# Altium footprint library Desafio_Hardware_Firmware_Nathania.PcbLib: 20 footprints (part 1 of 2)
Each footprint in its own frame and in the unit in brackets; x right, y up, seen from the top. Pads: shape width x height; smd on the part's side, far side on the other; paste and mask are expansions set on the pad; w line width, h text height; cw(c..) or ccw(c..) is an arc to the next point about the centre after c.
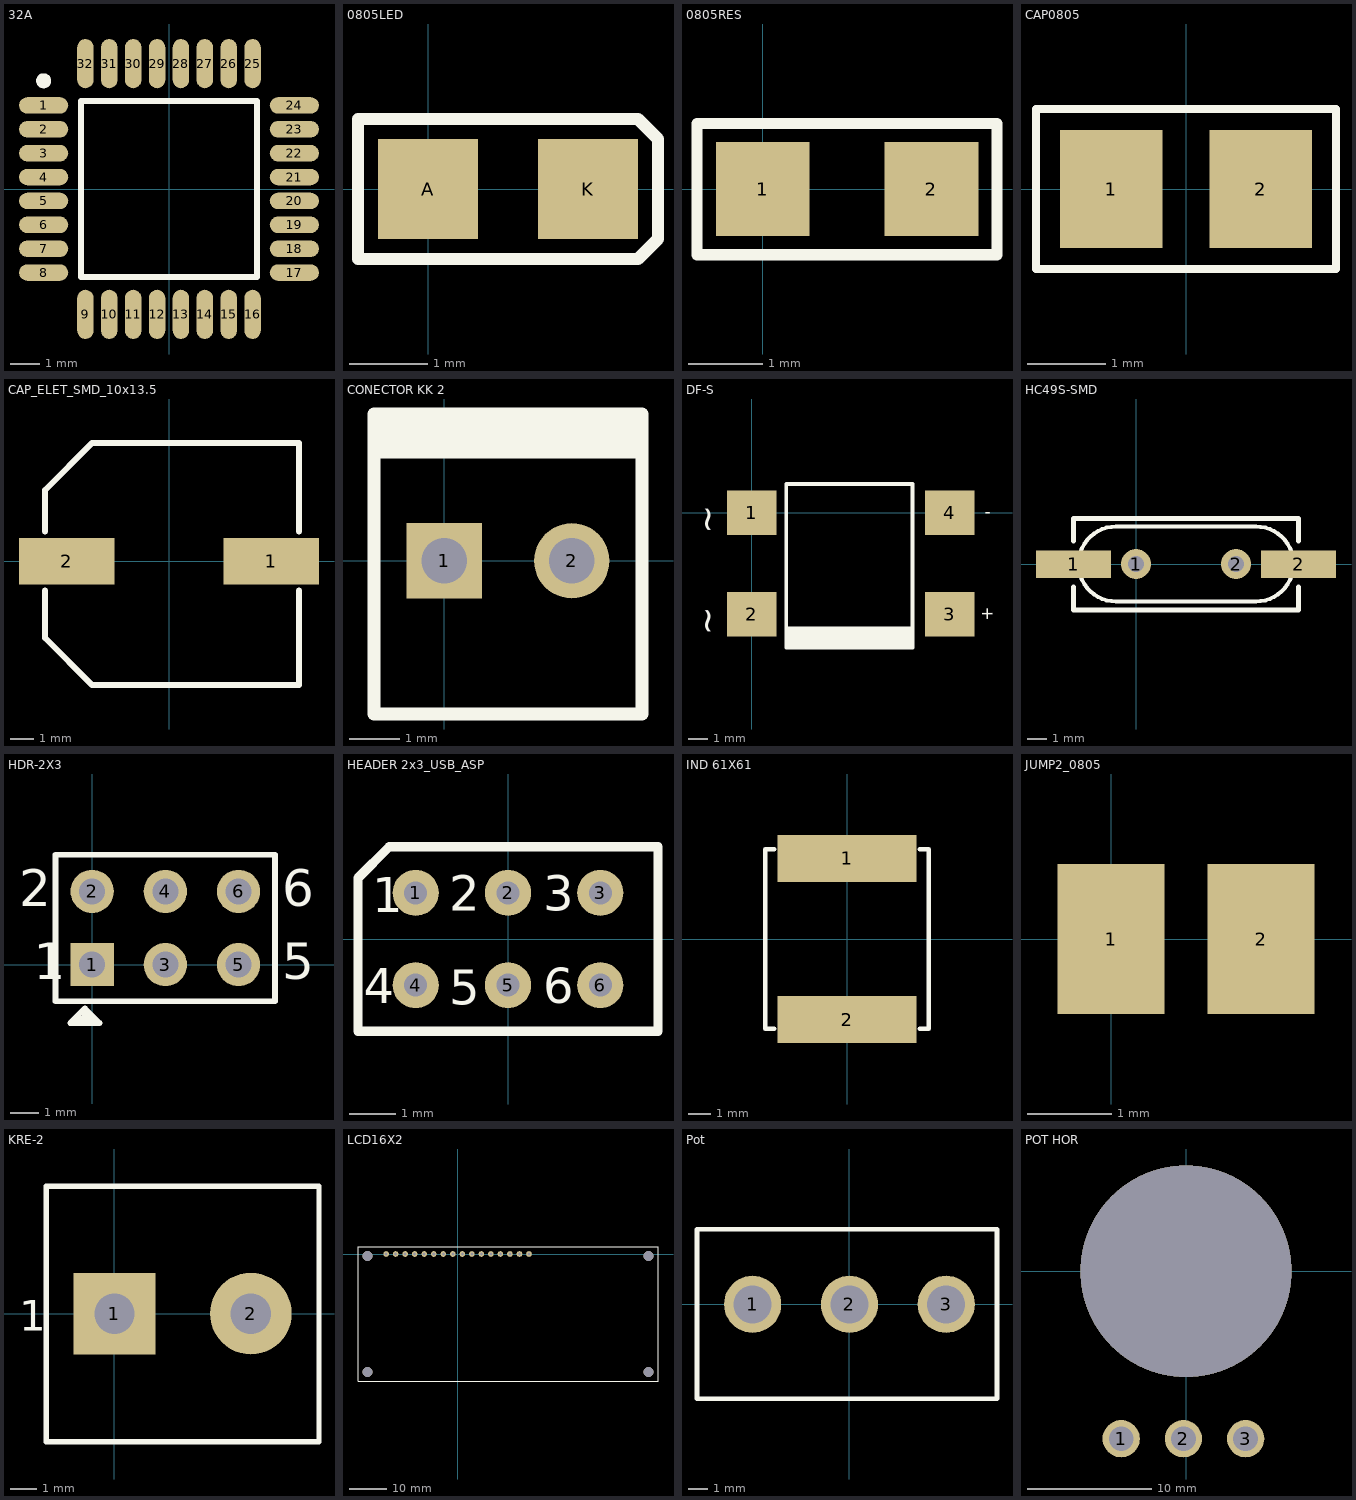
[diagram p0: the footprints below, top view; thin cyan lines are the x and y axes]

## 32A [mm]
pads (32):
  oval 1.65x0.55 smd: 1(-4.2,2.8) 2(-4.2,2) 3(-4.2,1.2) 4(-4.2,0.4) 5(-4.2,-0.4) 6(-4.2,-1.2) 7(-4.2,-2) 8(-4.2,-2.8) 17(4.2,-2.8) 18(4.2,-2) 19(4.2,-1.2) 20(4.2,-0.4) 21(4.2,0.4) 22(4.2,1.2) 23(4.2,2) 24(4.2,2.8)
  oval 0.55x1.65 smd: 9(-2.8,-4.2) 10(-2,-4.2) 11(-1.2,-4.2) 12(-0.4,-4.2) 13(0.4,-4.2) 14(1.2,-4.2) 15(2,-4.2) 16(2.8,-4.2) 25(2.8,4.2) 26(2,4.2) 27(1.2,4.2) 28(0.4,4.2) 29(-0.4,4.2) 30(-1.2,4.2) 31(-2,4.2) 32(-2.8,4.2)
Top Overlay:
  circle w0.25: c-4.2,3.625 r0.125
  lines w0.2: -2.95,-2.95 -2.95,2.95 2.95,2.95 2.95,-2.95 -2.95,-2.95
3D body "User Library-SW3dPS-atmega8 (tqfp32)_V2008.step": height 1.1, standoff -0.01, extent -4.8,-4.81 4.8,4.79

## 0805LED [mil]
height 39.37
pads (2):
  rect 50x50 smd: A(0,0) K(80,0)
Top Overlay:
  lines w6: -35,-35 30,-35 105,-35 115,-25 115,25 105,35 0,35 -35,35 -35,-35
3D body "User Library-led_0805.step": height 43.31, standoff 0, extent 0,-24.6 79.53,24.6

## 0805RES [mil]
pads (2):
  rect 50x50 smd: 1(0,0) 2(90,0)
Top Overlay:
  lines w6: -35,-35 -35,35 125,35 125,-35 -35,-35
3D body "User Library-RES_2013-0805.step": height 29.92, standoff 0, extent -5.28,-26.58 85.28,26.58

## CAP0805 [mm] "Chip Resistor; Body 2 x 1.2 mm (LxW typ)"
height 0.7
pads (2):
  rect 1.3x1.5 smd: 1(-0.95,0) 2(0.95,0)
Top Overlay:
  lines w0.1: -1.905,-1.016 1.905,-1.016 1.905,1.016 -1.905,1.016 -1.905,-1.016
3D body "User Library-Chip Cap_MLCC_0805 (2012)_B.step": height 0.8, standoff 0, extent -1.051,-0.635 0.949,0.615

## CAP_ELET_SMD_10x13.5 [mm]
pads (2):
  rect 4.1x2 smd: 1(4.4,0) 2(-4.4,0)
Top Overlay:
  lines w0.254: -5.334,-1.27 -5.334,-3.302 -3.302,-5.334 5.588,-5.334 5.588,-1.27 ; -5.334,1.27 -5.334,3.048 -3.302,5.08 5.588,5.08 5.588,1.27
3D body "User Library-CAP SMD SVP 10_0x12_6.STEP": height 12.6, standoff 0, extent -5.424,-5.232 5.576,5.068

## CONECTOR KK 2 [mm] "Connector; Header; 2 Position"
pads (2):
  rect 1.5x1.5 hole 0.9: 1(0,0)
  round 1.5 hole 0.9: 2(2.54,0)
Top Overlay:
  lines w0.254: -1.397,2.159 3.937,2.159 3.937,2.413 -1.397,2.413 -1.397,2.667 3.937,2.667 ; -1.397,-3.048 -1.397,2.921 3.937,2.921 3.937,-3.048 -1.397,-3.048
3D body "User Library-molex kk 0_1in latching 2 way vertical header.step": height 11.7, standoff -3.54, extent -1.27,-2.972 3.81,2.87

## DF-S [mil]
pads (4):
  rect 100x90 smd: 1(0,0) 2(0,-205) 3(400,-205) 4(400,0)
Top Overlay:
  rectangle: 70,-272 325,-230
  lines w8: 70,-272 70,58 325,58 325,-272 70,-272
  text "~" at -110,-190 h50
  text "~" at -110,15 h50
  text "+" at 465,-190 h25
  text "-" at 470,-10 h25
3D body "User Library-DFXXS.step": height 143.7, standoff 3.32, extent -2.75,-272.52 402.76,62.52

## HC49S-SMD [mil]
pads (4):
  rect 150x55 smd: 1(-125,0) 2(325,0)
  round 60 hole 31.5: 1(0,0) 2(200,0)
Top Overlay:
  lines w8: -40,-75 cw(c-40,0) -40,75 240,75 cw(c240,0) 240,-75 -40,-75
  lines w10: -125,-45.75 -125,-91.5 325,-91.5 325,-45.75 ; -125,45.75 -125,91.5 325,91.5 325,45.75
3D body "User Library-Crystal HC49_US-SM.step": height 169.29, standoff 0, extent -151.96,-95.07 351.97,95.08

## HDR-2X3 [mm] "Connector; Header; 3x2 Position"
pads (6):
  rect 1.5x1.5 hole 0.9: 1(0,0)
  round 1.5 hole 0.9: 2(0,2.54) 3(2.54,0) 4(2.54,2.54) 5(5.08,0) 6(5.08,2.54)
Top Overlay:
  lines w0.2: 1.482,-1.27 6.35,-1.27 ; 6.35,-1.27 -1.27,-1.27 -1.27,3.81 6.35,3.81 6.35,-1.27
  lines w0.203: -0.533,-1.88 -0.152,-1.88 0,-2.032 ; -0.381,-2.032 -0.254,-1.905 -0.254,-1.524 ; -0.254,-1.524 -0.762,-2.032 0,-2.032 ; -0.254,-1.524 0.254,-2.032 0,-2.032
  text "1" at -2.032,-0.508 h1.27
  text "2" at -2.54,2.032 h1.27
  text "5" at 6.604,-0.508 h1.27
  text "6" at 6.604,2.032 h1.27
3D body "User Library-HEADER, 2X3, 2_54MM X 2_54MM PITCH, VERT, TH.step": height 8.38, standoff -3.81, extent -1.27,-1.27 6.35,3.81

## HEADER 2x3_USB_ASP [mm]
height 1
pads (6):
  round 1 hole 0.5: 1(-2,1) 2(0,1) 3(2,1) 4(-2,-1) 5(0,-1) 6(2,-1)
Top Overlay:
  lines w0.2: -3.25,-2 3.25,-2 3.25,2 -2.572,2 -3.25,1.322 -3.25,-2
  text "1" at -2.946,0.584 h0.76
  text "2" at -1.27,0.61 h0.76
  text "3" at 0.762,0.61 h0.76
  text "4" at -3.124,-1.397 h0.76
  text "5" at -1.27,-1.422 h0.76
  text "6" at 0.762,-1.397 h0.76

## IND 61X61 [mm]
pads (2):
  rect 6.3x2.15 smd: 1(0,3.65) 2(0,-3.65)
Top Overlay:
  lines w0.203: -3.302,-4.064 -3.7,-4.064 -3.7,4.064 -3.302,4.064 ; 3.302,-4.064 3.7,-4.064 3.7,4.064 3.302,4.064
3D body "User Library-SPI0705 (SD75).step": height 3.3, standoff 0, extent -3.65,-3.65 3.65,3.65

## JUMP2_0805 [mil]
pads (2):
  rect 50x70 smd: 1(0,0) 2(70,0)

## KRE-2 [mil] "BORNE CONECTOR, MKDSN2.5, 2 PIN, PHOENIX CONTACT"
height 39.37
pads (2):
  rect 120x120 hole 59.05: 1(0,0)
  round 120 hole 59.05: 2(200,0)
Top Overlay:
  lines w8: -100,186 -100,-188 300,-188 300,186 ; -100,187 300,187
  text "1" at -140,-25 h45
3D body "User Library-bornera de 2 terminales-1.step": height 443.7, standoff -77.95, extent -96.85,-140 296.85,155.28

## LCD16X2 [mm]
pads (16):
  round 1.5 hole 0.8: 1(-19.05,0) 2(-16.51,0) 3(-13.97,0) 4(-11.43,0) 5(-8.89,0) 6(-6.35,0) 7(-3.81,0) 8(-1.27,0) 9(1.27,0) 10(3.81,0) 11(6.35,0) 12(8.89,0) 13(11.43,0) 14(13.97,0) 15(16.51,0) 16(19.05,0)
via 50.95,-0.5 diameter 2.6 hole 2.6
via 50.95,-31.5 diameter 2.6 hole 2.6
via -24.05,-31.5 diameter 2.6 hole 2.6
via -24.05,-0.5 diameter 2.6 hole 2.6
Top Overlay:
  lines w0.178: -26.55,-34 53.45,-34 53.45,2 -26.55,2 -26.55,-34
3D body "User Library-LCD-5.STEP": height 12.6, standoff -5.7, extent -26.936,-33.61 53.064,2.39

## Pot [mm]
pads (3):
  round 3 hole 2: 1(-5.08,0) 2(0,0) 3(5.08,0)
Top Overlay:
  lines w0.254: -8.001,-4.953 7.747,-4.953 7.747,3.937 -8.001,3.937 -8.001,-4.953
3D body "User Library-potenciometro.step": height 23.62, standoff -1.02, extent -8.001,-5.032 7.747,20.526

## POT HOR [mm]
pads (3):
  round 3 hole 2: 1(-5.207,-13.462) 2(-0.207,-13.462) 3(4.793,-13.462)
via 0,0 diameter 17 hole 17
Bottom Overlay:
  lines w0.178: -7.239,-4.696 -7.239,-15.494 6.985,-15.494 6.985,-5.08 ; -7.234,-4.696 cw(c0,0) 6.975,-5.073
3D body "User Library-Pot.step.crdownload": height 20.73, standoff -4.83, extent -8.001,-16.629 7.747,7.993